# Altium schematic symbol library SCH - OPAMP - LT6203.SCHLIB: 1 symbol
Pins are listed as number, name and electrical type; pins without a type are passive.

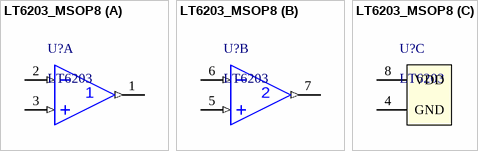
[diagram p0: symbol LT6203_MSOP8]

## LT6203_MSOP8
designator U?, comment LT6203
2 Ch OpAmp
part A pins: 1 1OUT (out), 2 1IN- (in), 3 1IN+ (in)
part B pins: 5 2IN+ (in), 6 2IN- (in), 7 2OUT (out)
part C pins: 4 GND (power), 8 VDD (power)